# Altium schematic symbol library MS9342.SCHLIB: 1 symbol
Pins are listed as number, name and electrical type; pins without a type are passive.

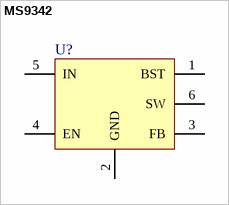
[diagram p0: symbol MS9342]

## MS9342
designator U?
pins: 1 BST, 2 GND, 3 FB, 4 EN, 5 IN, 6 SW